# EAGLE library part SD-CARD-CON (library KnowledgeCentric)
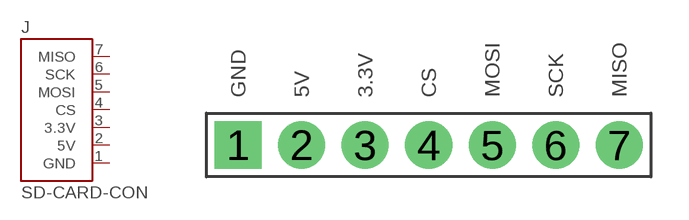
[diagram p4: symbol with the pads of SD-CARD-CON; footprint SD-CARD-CON]

Designator prefix J

## SD-CARD-CON  [SD-CARD-CON]
1  GND
2  5V
3  3.3V
4  CS
5  MOSI
6  SCK
7  MISO

## Footprint SD-CARD-CON (pad centres in mm)
drill 1.016 pad 1.88 square: 1 -7.62,0
drill 1.016 pad 1.88: 2 -5.08,0; 3 -2.54,0; 4 0,0; 5 2.54,0; 6 5.08,0; 7 7.62,0